# EAGLE library part MCV6 (library con-phoenix-381)
Mini-Combicon 3.81mm vertikal 6polig MCV 1,5/6-G-3,81 Artikel-Nr. 1803468
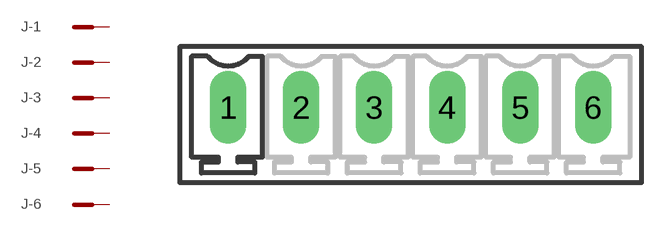
[diagram p0: symbol with the pads of MCV6; footprint MCV6]

Designator prefix J; gates -1=MCST -2=MCST -3=MCST -4=MCST -5=MCST -6=MCST

## MCV6  [MCV6]
1  -1:SK  pas
2  -2:SK  pas
3  -3:SK  pas
4  -4:SK  pas
5  -5:SK  pas
6  -6:SK  pas

## Footprint MCV6 (pad centres in mm)
Mini-Combicon 3.81mm vertikal 6-polig MCV 1,5/6-G-3,81 Artikel-Nr. 1803468
drill 1.27 pad 1.905 long: 1 -9.525,0; 2 -5.715,0; 3 -1.905,0; 4 1.905,0; 5 5.715,0; 6 9.525,0